# EAGLE library part PCI-EXPRESS-MINI (library parts)
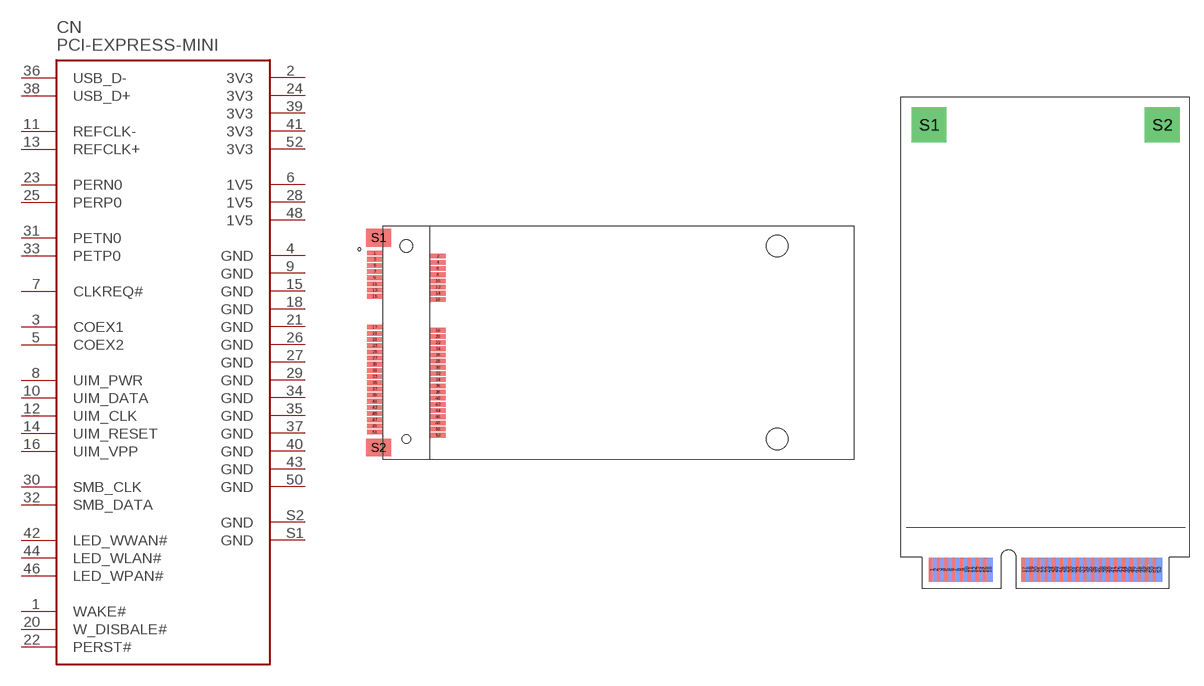
[diagram p16: symbol with the pads of PCI-EXPRESS-MINI; footprints PCI-EXPRESS-MINI, MINI-PCI-E]

Designator prefix CN

## PCI-EXPRESS-MINI  [PCI-EXPRESS-MINI]
1  WAKE#
2  3V3
3  COEX1
4  GND
5  COEX2
6  1V5
7  CLKREQ#
8  UIM_PWR
9  GND
10  UIM_DATA
11  REFCLK-
12  UIM_CLK
13  REFCLK+
14  UIM_RESET
15  GND
16  UIM_VPP
18  GND
20  W_DISBALE#
21  GND
22  PERST#
23  PERN0
24  3V3
25  PERP0
26  GND
27  GND
28  1V5
29  GND
30  SMB_CLK
31  PETN0
32  SMB_DATA
33  PETP0
34  GND
35  GND
36  USB_D-
37  GND
38  USB_D+
39  3V3
40  GND
41  3V3
42  LED_WWAN#
43  GND
44  LED_WLAN#
46  LED_WPAN#
48  1V5
50  GND
52  3V3
S1  GND
S2  GND

## PCI-EXPRESS-MINI-CARD  [MINI-PCI-E]
Pads as for PCI-EXPRESS-MINI

## PCI-EXPRESS-MINI-CARD-90X55  [MINI-PCIE-90X55]
Pads as for PCI-EXPRESS-MINI

## Footprint PCI-EXPRESS-MINI (pad centres in mm)
smd 2 x 0.6: 1 -4.1,11.6; 2 4.1,11.2; 3 -4.1,10.8; 4 4.1,10.4; 5 -4.1,10; 6 4.1,9.6; 7 -4.1,9.2; 8 4.1,8.8; 9 -4.1,8.4; 10 4.1,8; 11 -4.1,7.6; 12 4.1,7.2; 13 -4.1,6.8; 14 4.1,6.4; 15 -4.1,6; 16 4.1,5.6; 17 -4.1,2; 18 4.1,1.6; 19 -4.1,1.2; 20 4.1,0.8; 21 -4.1,0.4; 22 4.1,0; 23 -4.1,-0.4; 24 4.1,-0.8; 25 -4.1,-1.2; 26 4.1,-1.6; 27 -4.1,-2; 28 4.1,-2.4; 29 -4.1,-2.8; 30 4.1,-3.2; 31 -4.1,-3.6; 32 4.1,-4; 33 -4.1,-4.4; 34 4.1,-4.8; 35 -4.1,-5.2; 36 4.1,-5.6; 37 -4.1,-6; 38 4.1,-6.4; 39 -4.1,-6.8; 40 4.1,-7.2; 41 -4.1,-7.6; 42 4.1,-8; 43 -4.1,-8.4; 44 4.1,-8.8; 45 -4.1,-9.2; 46 4.1,-9.6; 47 -4.1,-10; 48 4.1,-10.4; 49 -4.1,-10.8; 50 4.1,-11.2; 51 -4.1,-11.6; 52 4.1,-12
smd 3.2 x 2.3: S1 -3.6,13.6; S2 -3.6,-13.6
hole 1.1 at 0,-12.5
hole 1.6 at 0,12.5
hole 2.8 at 48.05,-12.5
hole 2.8 at 48.05,12.5

## Footprint MINI-PCI-E (pad centres in mm)
smd 0.6 x 2.5: 1 -11.8,-0.2; 3 -11,-0.2; 5 -10.2,-0.2; 7 -9.4,-0.2; 9 -8.6,-0.2; 11 -7.8,-0.2; 13 -7,-0.2; 15 -6.2,-0.2; 17 -2.2,-0.2; 19 -1.4,-0.2; 21 -0.6,-0.2; 23 0.2,-0.2; 25 10.6,-0.2; 26 1,-0.2; 28 1.8,-0.2; 30 2.6,-0.2; 32 3.4,-0.2; 34 4.2,-0.2; 36 5,-0.2; 38 5.8,-0.2; 40 6.6,-0.2; 42 7.4,-0.2; 44 8.2,-0.2; 46 9,-0.2; 48 9.8,-0.2; 51 11.4,-0.2
smd 0.6 x 2.5 bottom: 2 -11.4,-0.2; 4 -10.6,-0.2; 6 -9.8,-0.2; 8 -9,-0.2; 10 -8.2,-0.2; 12 -7.4,-0.2; 14 -6.6,-0.2; 16 -5.8,-0.2; 18 -1.8,-0.2; 20 -1,-0.2; 22 -0.2,-0.2; 24 0.6,-0.2; 27 1.4,-0.2; 29 2.2,-0.2; 31 3,-0.2; 33 3.8,-0.2; 35 4.6,-0.2; 37 5.4,-0.2; 39 6.2,-0.2; 41 7,-0.2; 43 7.8,-0.2; 45 8.6,-0.2; 47 9.4,-0.2; 49 10.2,-0.2; 50 11,-0.2; 52 11.8,-0.2
drill 2.6 square: S1 -12.1,45.95; S2 12.1,45.95

## Footprint MINI-PCIE-90X55 (pad centres in mm)
smd 0.6 x 2.5: 1 -11.8,-4.2; 3 -11,-4.2; 5 -10.2,-4.2; 7 -9.4,-4.2; 9 -8.6,-4.2; 11 -7.8,-4.2; 13 -7,-4.2; 15 -6.2,-4.2; 17 -2.2,-4.2; 19 -1.4,-4.2; 21 -0.6,-4.2; 23 0.2,-4.2; 25 10.6,-4.2; 26 1,-4.2; 28 1.8,-4.2; 30 2.6,-4.2; 32 3.4,-4.2; 34 4.2,-4.2; 36 5,-4.2; 38 5.8,-4.2; 40 6.6,-4.2; 42 7.4,-4.2; 44 8.2,-4.2; 46 9,-4.2; 48 9.8,-4.2; 51 11.4,-4.2
smd 0.6 x 2.5 bottom: 2 -11.4,-4.2; 4 -10.6,-4.2; 6 -9.8,-4.2; 8 -9,-4.2; 10 -8.2,-4.2; 12 -7.4,-4.2; 14 -6.6,-4.2; 16 -5.8,-4.2; 18 -1.8,-4.2; 20 -1,-4.2; 22 -0.2,-4.2; 24 0.6,-4.2; 27 1.4,-4.2; 29 2.2,-4.2; 31 3,-4.2; 33 3.8,-4.2; 35 4.6,-4.2; 37 5.4,-4.2; 39 6.2,-4.2; 41 7,-4.2; 43 7.8,-4.2; 45 8.6,-4.2; 47 9.4,-4.2; 49 10.2,-4.2; 50 11,-4.2; 52 11.8,-4.2
drill 2.6 octagon: S1 -37.2,86.1; S2 12.1,77.45; S3 -37.2,0.1